# EAGLE library part 690368181072 (library Wurth_Connectors_WR-MM)
WR-MM Female Angled Connector w/o Latch & w/o Polarization KIND PROPERTIES: Pitch 2.54 mm Quality Class:25 Mating cycles Gender:Female MATERIAL PROPERTIES: Insulator Material:PBT Insulator Flammability Rating UL94 V-0 Insulator Color:Red Contact Material :Phosphor Bronze Contact Plating :Mat Tin over Nickel Contact Type: Stamped GENERAL PROPERTIES: Operating Temperature:-40 °C up to +105 °C Compliance Lead free / RoHS ELECTRICAL PROPERTIES: IR 1:1.5A Working Voltage 100 V (AC) Withstanding Voltage:500 V (AC) Contact Resistance: 10 mΩ Insulation Resistance:1000 MΩ PACKAGING PROPERTIES: cULus Approval:E323964 Packaging :Tube <https://katalog.we-online.com/media/images/v2/o33163v209%20Family_WR-MM_69036818xx72.jpg> Details see: Web1:https://katalog.we-online.com/en/em/MM_1_27_FEMALE_ANGLED_CONNECTOR_W_O_LATCH_AND_POLARIZATION_69036818XX72_2 Web2:https://katalog.we-online.com/en/em/MM_1_27_FEMALE_ANGLED_CONNECTOR_W_O_LATCH_AND_POLARIZATION_69036818XX72 Updated by Yingchun,Shan 2019-10-29 2019 (C) Würth Elektronik
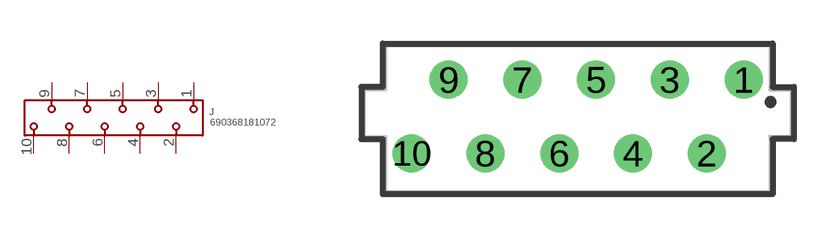
[diagram p6: symbol with the pads of 690368181072; footprint 690368181072]

Designator prefix J

## 690368181072 (DATASHEET-URL: https://www.we-online.com/catalog/datasheet/690368181072.pdf; GENDER: Female; IR: 1.5A; PACKAGING: Tube; PART-NUMBER: 690368181072; PINS: 10; PITCH: 2.54; TYPE: Angled; VALUE: 690368181072)  [690368181072]
1  1  pas
2  2  pas
3  3  pas
4  4  pas
5  5  pas
6  6  pas
7  7  pas
8  8  pas
9  9  pas
10  10  pas

## Footprint 690368181072 (pad centres in mm)
WR-MM Female Angled Connector w/o Latch & w/o Polarization, 10 Pins
drill 0.8: 1 5.715,1.27; 2 4.445,-1.27; 3 3.175,1.27; 4 1.905,-1.27; 5 0.635,1.27; 6 -0.635,-1.27; 7 -1.905,1.27; 8 -3.175,-1.27; 9 -4.445,1.27; 10 -5.715,-1.27